# Altium schematic symbol library SCH - MCU - ATSAM - MICROCHIP SAMC20E15A-AZ TQFP32.SchLib: 1 symbol
Pins are listed as number, name and electrical type; pins without a type are passive.

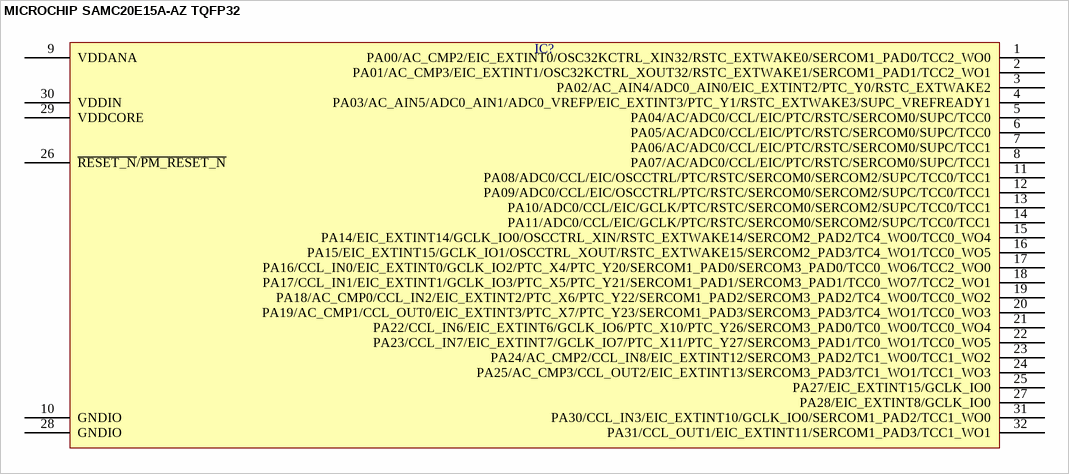
[diagram p0: symbol MICROCHIP SAMC20E15A-AZ TQFP32]

## MICROCHIP SAMC20E15A-AZ TQFP32
designator IC?  (value not drawn)
pins: 1 PA00/AC_CMP2/EIC_EXTINT0/OSC32KCTRL_XIN32/RSTC_EXTWAKE0/SERCOM1_PAD0/TCC2_WO0, 2 PA01/AC_CMP3/EIC_EXTINT1/OSC32KCTRL_XOUT32/RSTC_EXTWAKE1/SERCOM1_PAD1/TCC2_WO1, 3 PA02/AC_AIN4/ADC0_AIN0/EIC_EXTINT2/PTC_Y0/RSTC_EXTWAKE2, 4 PA03/AC_AIN5/ADC0_AIN1/ADC0_VREFP/EIC_EXTINT3/PTC_Y1/RSTC_EXTWAKE3/SUPC_VREFREADY1, 5 PA04/AC/ADC0/CCL/EIC/PTC/RSTC/SERCOM0/SUPC/TCC0, 6 PA05/AC/ADC0/CCL/EIC/PTC/RSTC/SERCOM0/SUPC/TCC0, 7 PA06/AC/ADC0/CCL/EIC/PTC/RSTC/SERCOM0/SUPC/TCC1, 8 PA07/AC/ADC0/CCL/EIC/PTC/RSTC/SERCOM0/SUPC/TCC1, 9 VDDANA, 10 GNDIO, 11 PA08/ADC0/CCL/EIC/OSCCTRL/PTC/RSTC/SERCOM0/SERCOM2/SUPC/TCC0/TCC1, 12 PA09/ADC0/CCL/EIC/OSCCTRL/PTC/RSTC/SERCOM0/SERCOM2/SUPC/TCC0/TCC1, 13 PA10/ADC0/CCL/EIC/GCLK/PTC/RSTC/SERCOM0/SERCOM2/SUPC/TCC0/TCC1, 14 PA11/ADC0/CCL/EIC/GCLK/PTC/RSTC/SERCOM0/SERCOM2/SUPC/TCC0/TCC1, 15 PA14/EIC_EXTINT14/GCLK_IO0/OSCCTRL_XIN/RSTC_EXTWAKE14/SERCOM2_PAD2/TC4_WO0/TCC0_WO4, 16 PA15/EIC_EXTINT15/GCLK_IO1/OSCCTRL_XOUT/RSTC_EXTWAKE15/SERCOM2_PAD3/TC4_WO1/TCC0_WO5, 17 PA16/CCL_IN0/EIC_EXTINT0/GCLK_IO2/PTC_X4/PTC_Y20/SERCOM1_PAD0/SERCOM3_PAD0/TCC0_WO6/TCC2_WO0, 18 PA17/CCL_IN1/EIC_EXTINT1/GCLK_IO3/PTC_X5/PTC_Y21/SERCOM1_PAD1/SERCOM3_PAD1/TCC0_WO7/TCC2_WO1, 19 PA18/AC_CMP0/CCL_IN2/EIC_EXTINT2/PTC_X6/PTC_Y22/SERCOM1_PAD2/SERCOM3_PAD2/TC4_WO0/TCC0_WO2, 20 PA19/AC_CMP1/CCL_OUT0/EIC_EXTINT3/PTC_X7/PTC_Y23/SERCOM1_PAD3/SERCOM3_PAD3/TC4_WO1/TCC0_WO3, 21 PA22/CCL_IN6/EIC_EXTINT6/GCLK_IO6/PTC_X10/PTC_Y26/SERCOM3_PAD0/TC0_WO0/TCC0_WO4, 22 PA23/CCL_IN7/EIC_EXTINT7/GCLK_IO7/PTC_X11/PTC_Y27/SERCOM3_PAD1/TC0_WO1/TCC0_WO5, 23 PA24/AC_CMP2/CCL_IN8/EIC_EXTINT12/SERCOM3_PAD2/TC1_WO0/TCC1_WO2, 24 PA25/AC_CMP3/CCL_OUT2/EIC_EXTINT13/SERCOM3_PAD3/TC1_WO1/TCC1_WO3, 25 PA27/EIC_EXTINT15/GCLK_IO0, 26 ~{RESET_N}/~{PM_RESET_N}, 27 PA28/EIC_EXTINT8/GCLK_IO0, 28 GNDIO, 29 VDDCORE, 30 VDDIN, 31 PA30/CCL_IN3/EIC_EXTINT10/GCLK_IO0/SERCOM1_PAD2/TCC1_WO0, 32 PA31/CCL_OUT1/EIC_EXTINT11/SERCOM1_PAD3/TCC1_WO1